# EAGLE library part PCA9515 (library philips_I2C_repeaters-hubs-expanders)
I2C bus repeater The PCA9515 BiCMOS integrated circuit contains two identical buffer circuits which enable I2C and similar bus systems to be extended without degradation of system performance. The PCA9515 BiCMOS integrated circuit contains two bi-directional, open drain buffers specifically designed to support the standard low-level-contention arbitration of the I2C-bus. Except during arbitration or clock stretching, the PCA9515 acts like a pair of non-inverting, open drain buffers, one for SDA and one for SCL.
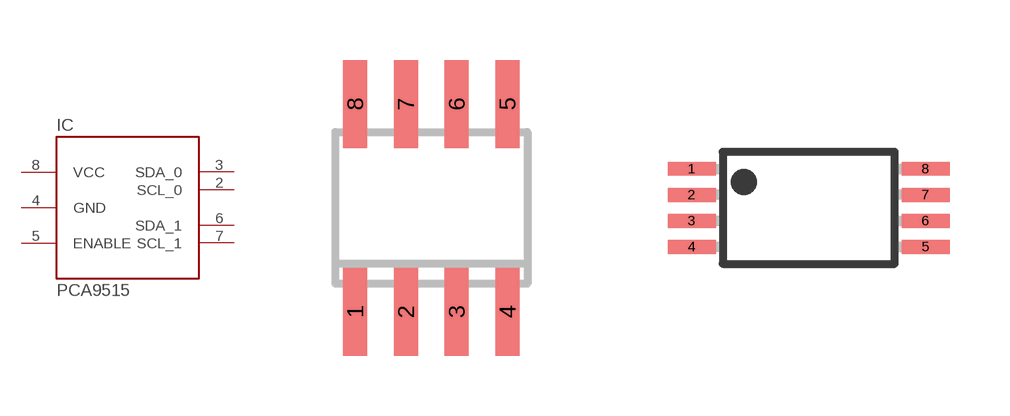
[diagram p2: symbol with the pads of SO8; footprints SO8, TSSOP8]

Designator prefix IC

## PCA9515D-T  [SO8]
2  SCL_0
3  SDA_0
4  GND  pwr
5  ENABLE  in
6  SDA_1
7  SCL_1
8  VCC  pwr

## PCA9515DP-T  [TSSOP8]
Pads as for SO8

## Footprint SO8 (pad centres in mm)
SMALL OUTLINE INTEGRATED CIRCUIT
smd 0.6 x 2.2: 1 -1.905,-2.6; 2 -0.635,-2.6; 3 0.635,-2.6; 4 1.905,-2.6; 5 1.905,2.6; 6 0.635,2.6; 7 -0.635,2.6; 8 -1.905,2.6

## Footprint TSSOP8 (pad centres in mm)
Plastic Small Outline
smd 1.2 x 0.35: 1 -2.925,0.975; 2 -2.925,0.325; 3 -2.925,-0.325; 4 -2.925,-0.975; 5 2.925,-0.975; 6 2.925,-0.325; 7 2.925,0.325; 8 2.925,0.975